# Altium integrated library Altium_SMD_Resister.IntLib: 490 symbols (part 8 of 8)
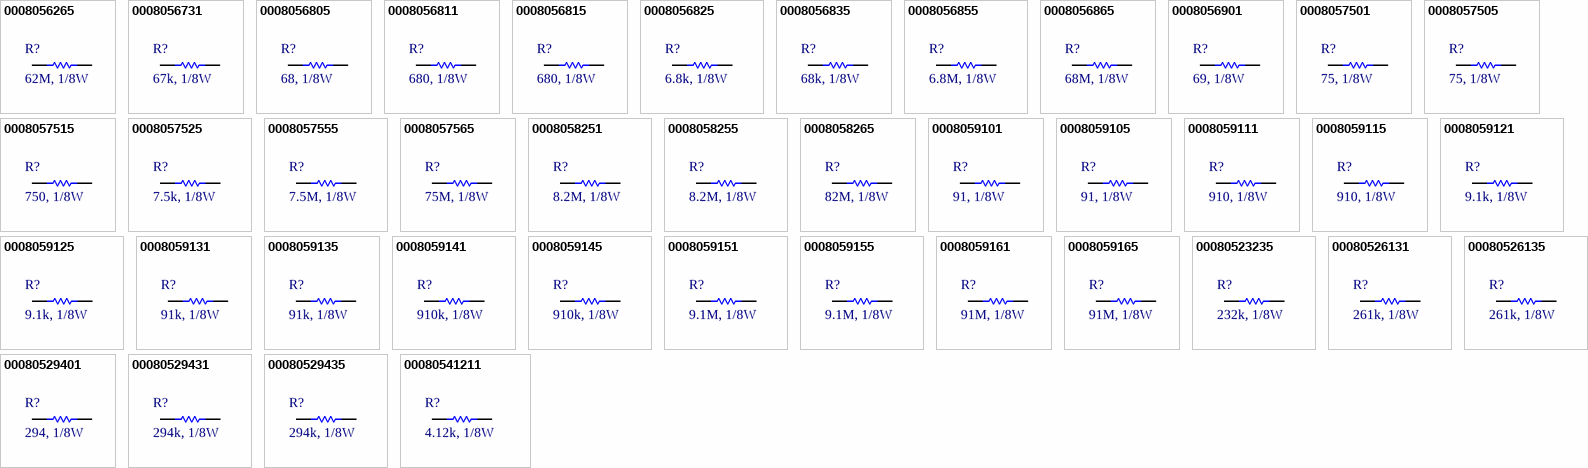
[diagram p19: symbols 0008056265 to 00080541211]

## 00080523235
designator R?, comment 232k, 1/8W
RES, 232k Ohm, size 0805, 5%; Manufacture  Name: Welwyn Components / TT Electronics; Manufacture  SN: LHVC0805-232KJT5; Resistance tolerance: +/-5%; Supply 1 Name: Mouser; Supply 1 SN: 756-LHVC0805-232KJT5; Size: 0805; Mounting Technology: SMT; Rated Power: 1/8 W; Datasheet: https://www.ttelectronics.com/TTElectronics/media/ProductFiles/Datasheets/LHVC.pdf; Resistance: 232k; ComponentLink1Description: Datasheet link; ComponentLink1URL: *; Supply 1 URL: https://www.mouser.vn/ProductDetail/Welwyn-Components-TT-Electronics/LHVC0805-232KJT5?qs=GY4PX5ytnAjQQPp7mjLUUQ%3D%3D; Supply 2 Name: *; Supply 2 SN: *; Supply 2 URL: *; Supply 3 Name: *; Supply 3 SN: *; Supply 3 URL: *
footprint RESISTOR_0805 (Chip Resistor, 2-Leads, Body 2,00x1,20mm, IPC Medium Density)
pins: 1, 2

## 00080526131
designator R?, comment 261k, 1/8W
RES, 261k Ohm, size 0805, 1%; Manufacture  Name: Bourns; Manufacture  SN: CR0805-FX-2613ELF; Resistance tolerance: +/-1%; Supply 1 Name: Mouser; Supply 1 SN: 652-CR0805FX-2613ELF; Supply 2 Name: Digi-Key; Supply 2 SN: 118-CR0805-FX-2613ELFTR-ND - Tape & Reel (TR); Size: 0805; Mounting Technology: SMT; Rated Power: 1/8 W; Datasheet: https://www.mouser.vn/datasheet/2/54/cr-1858361.pdf; Resistance: 261k; ComponentLink1Description: Datasheet link; ComponentLink1URL: *; Supply 1 URL: https://www.mouser.vn/ProductDetail/Bourns/CR0805-FX-2613ELF?qs=4vGXhLEMbUxDnPXNgaMzmw%3D%3D; Supply 2 URL: https://www.digikey.com/en/products/detail/bourns-inc/CR0805-FX-2613ELF/3784800; Supply 3 Name: *; Supply 3 SN: *; Supply 3 URL: *
footprint RESISTOR_0805 (Chip Resistor, 2-Leads, Body 2,00x1,20mm, IPC Medium Density)
pins: 1, 2

## 00080526135
designator R?, comment 261k, 1/8W
RES, 261k Ohm, size 0805, 5%; Manufacture  Name: Welwyn Components / TT Electronics; Manufacture  SN: LHVC0805-261KJT5; Resistance tolerance: +/-5%; Supply 1 Name: Mouser; Supply 1 SN: 756-LHVC0805-261KJT5; Size: 0805; Mounting Technology: SMT; Rated Power: 1/8 W; Datasheet: https://www.ttelectronics.com/TTElectronics/media/ProductFiles/Datasheets/LHVC.pdf; Resistance: 261k; ComponentLink1Description: Datasheet link; ComponentLink1URL: *; Supply 1 URL: https://www.mouser.vn/ProductDetail/Welwyn-Components-TT-Electronics/LHVC0805-261KJT5?qs=GY4PX5ytnAhEaqCyRTPbhQ%3D%3D; Supply 2 Name: *; Supply 2 SN: *; Supply 2 URL: *; Supply 3 Name: *; Supply 3 SN: *; Supply 3 URL: *
footprint RESISTOR_0805 (Chip Resistor, 2-Leads, Body 2,00x1,20mm, IPC Medium Density)
pins: 1, 2

## 00080529401
designator R?, comment 294, 1/8W
RES, 294 Ohm, size 0805, 1%; Manufacture  Name: Panasonic; Manufacture  SN: ERJ-6ENF2940V; Resistance tolerance: +/-1%; Resistance: 294; Supply 1 Name: Mouser; Supply 1 SN: 667-ERJ-6ENF2940V; Supply 2 Name: Digi-Key; Supply 2 SN: P294CTR-ND - Tape & Reel (TR); Size: 0805; Mounting Technology: SMT; Rated Power: 1/8 W; Datasheet: https://www.mouser.vn/datasheet/2/315/AOA0000C304-1149620.pdf; ComponentLink1Description: Datasheet link; ComponentLink1URL: *; Supply 1 URL: https://www.mouser.vn/ProductDetail/Panasonic/ERJ-6ENF2940V?qs=50QC8w71jAvukmJpZ9Lw1g%3D%3D; Supply 2 URL: https://www.digikey.com/en/products/detail/panasonic-electronic-components/ERJ-6ENF2940V/111179; Supply 3 Name: *; Supply 3 SN: *; Supply 3 URL: *
footprint RESISTOR_0805 (Chip Resistor, 2-Leads, Body 2,00x1,20mm, IPC Medium Density)
pins: 1, 2

## 00080529431
designator R?, comment 294k, 1/8W
RES, 294k Ohm, size 0805, 1%; Manufacture  Name: Bourns; Manufacture  SN: CR0805-FX-2943ELF; Resistance tolerance: +/-1%; Supply 1 Name: Mouser; Supply 1 SN: 652-CR0805FX-2943ELF; Supply 2 Name: Digi-Key; Supply 2 SN: 118-CR0805-FX-2943ELFTR-ND - Tape & Reel (TR); Size: 0805; Mounting Technology: SMT; Rated Power: 1/8 W; Datasheet: https://www.mouser.vn/datasheet/2/54/cr-1858361.pdf; Resistance: 294k; ComponentLink1Description: Datasheet link; ComponentLink1URL: *; Supply 1 URL: https://www.mouser.vn/ProductDetail/YAGEO/AC0805FR-07261RL?qs=UBLIud9aIG3KLDcxZj7pBg%3D%3D; Supply 2 URL: https://www.digikey.com/en/products/detail/bourns-inc/CR0805-FX-2943ELF/3784832; Supply 3 Name: *; Supply 3 SN: *; Supply 3 URL: *
footprint RESISTOR_0805 (Chip Resistor, 2-Leads, Body 2,00x1,20mm, IPC Medium Density)
pins: 1, 2

## 00080529435
designator R?, comment 294k, 1/8W
RES, 294k Ohm, size 0805, 5%; Manufacture  Name: Welwyn Components / TT Electronics; Manufacture  SN: LHVC0805-294KJT5; Resistance tolerance: +/-5%; Supply 1 Name: Mouser; Supply 1 SN: 756-LHVC0805-294KJT5; Size: 0805; Mounting Technology: SMT; Rated Power: 1/8 W; Datasheet: https://www.ttelectronics.com/TTElectronics/media/ProductFiles/Datasheets/LHVC.pdf; Resistance: 294k; ComponentLink1Description: Datasheet link; ComponentLink1URL: *; Supply 1 URL: https://www.mouser.vn/ProductDetail/Welwyn-Components-TT-Electronics/LHVC0805-294KJT5?qs=GY4PX5ytnAjG5%252BRJuXIg7w%3D%3D; Supply 2 Name: *; Supply 2 SN: *; Supply 2 URL: *; Supply 3 Name: *; Supply 3 SN: *; Supply 3 URL: *
footprint RESISTOR_0805 (Chip Resistor, 2-Leads, Body 2,00x1,20mm, IPC Medium Density)
pins: 1, 2

## 00080541211
designator R?, comment 4.12k, 1/8W
RES, 4.12k Ohm, size 0805, 1%; Manufacture  Name: Panasonic; Manufacture  SN: ERJ-U06F4121V; Resistance tolerance: +/-1%; Supply 1 Name: Mouser; Supply 1 SN: 667-ERJ-U06F4121V; Supply 2 Name: Digi-Key; Supply 2 SN: P4.12KCTR-ND - Tape & Reel (TR); Size: 0805; Mounting Technology: SMT; Rated Power: 1/8 W; Datasheet: https://www.mouser.vn/datasheet/2/315/AOA0000C334-1314047.pdf; Resistance: 4.12k; ComponentLink1Description: Datasheet link; ComponentLink1URL: *; Supply 1 URL: https://www.mouser.vn/ProductDetail/Panasonic/ERJ-U06F4121V?qs=Yyy8avaXlIsQpLxN%2Fe1aQA%3D%3D; Supply 2 URL: https://www.digikey.com/en/products/detail/panasonic-electronic-components/ERJ-6ENF4121V/111401; Supply 3 Name: *; Supply 3 SN: *; Supply 3 URL: *
footprint RESISTOR_0805 (Chip Resistor, 2-Leads, Body 2,00x1,20mm, IPC Medium Density)
pins: 1, 2

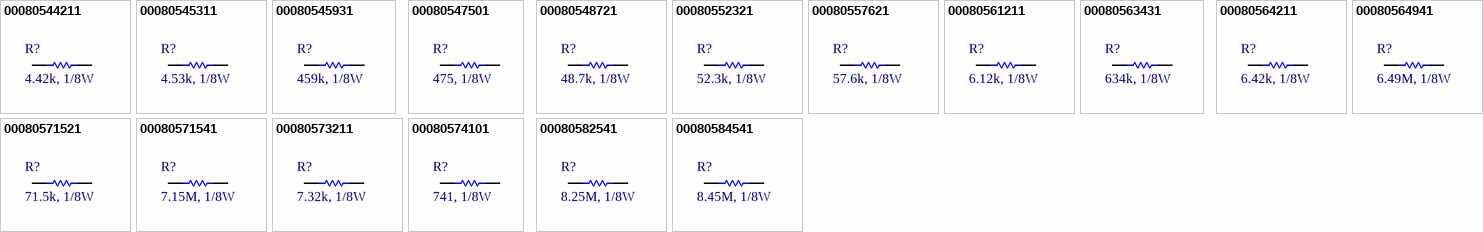
[diagram p12: symbols 00080544211 to 00080584541]

## 00080544211
designator R?, comment 4.42k, 1/8W
RES, 4.42k Ohm, size 0805, 1%; Resistance: 4.42 kOhms; Resistance Tolerance: +/-1%; Mounting Technique: SMT; Supply 1 Name: Digi-Key; Supply 1 SN: 311-4.42KCRDKR-ND; Supply 2 Name: Mouser; Supply 2 SN: 652-CR0805FX-4421ELF; Supply 3 Name: thegioiic; Size: 0805; Rated Power: 1/8W; Supply 1 URL: https://www.digikey.com/en/products/detail/yageo/RC0805FR-074K42L/727920; Supply 2 URL: https://www.mouser.vn/ProductDetail/Bourns/CR0805-FX-4421ELF?qs=sGAEpiMZZMtG0KNrPCHnjfC2zYK6Lg3%2FrXlYMryvIvo%3D; Supply 3 SN: *; Supply 3 URL: https://www.thegioiic.com/dien-tro-44-2-kohm-0805-1
footprint RESISTOR_0805 (Chip Resistor, 2-Leads, Body 2,00x1,20mm, IPC Medium Density)
pins: 1, 2

## 00080545311
designator R?, comment 4.53k, 1/8W
RES, 4.53k Ohm, size 0805, 1%; Resistance: 4.53 kOhms; Resistance Tolerance: +/-1%; Mounting Technique: SMT; Supply 1 Name: Digi-Key; Supply 1 SN: 311-45.3KCRDKR-ND; Supply 2 Name: Mouser; Supply 2 SN: 652-CR0805FX-4532ELF; Size: 0805; Rated Power: 1/8W; Supply 1 URL: https://www.digikey.com/en/products/detail/yageo/RC0805FR-0745K3L/727965; Supply 2 URL: https://www.mouser.vn/ProductDetail/Bourns/CR0805-FX-4532ELF?qs=sGAEpiMZZMtG0KNrPCHnjfC2zYK6Lg3%2F1%2Fel6VE8vT0%3D
footprint RESISTOR_0805 (Chip Resistor, 2-Leads, Body 2,00x1,20mm, IPC Medium Density)
pins: 1, 2

## 00080545931
designator R?, comment 459k, 1/8W
RES, 459k Ohm, size 0805, 1%; Resistance: 459 kOhms; Resistance Tolerance: +/-1%; Mounting Technique: SMT; Supply 1 Name: Digi-Key; Supply 1 SN: RMCF0805FT4K30DKR-ND; Size: 0805; Rated Power: 1/8W; Supply 1 URL: https://www.digikey.com/en/products/detail/stackpole-electronics-inc/RMCF0805FT4K30/1760198; Supply 2 Name: *; Supply 2 SN: *; Supply 2 URL: *
footprint RESISTOR_0805 (Chip Resistor, 2-Leads, Body 2,00x1,20mm, IPC Medium Density)
pins: 1, 2

## 00080547501
designator R?, comment 475, 1/8W
RES, 475 Ohm, size 0805, 1%; Resistance: 475 Ohms; Resistance Tolerance: +/-1%; Mounting Technique: SMT; Supply 1 Name: Digi-Key; Supply 1 SN: 311-475CRDKR-ND; Supply 2 Name: Mouser; Supply 2 SN: 660-RK73G2ARTTD4750F; Size: 0805; Rated Power: 1/8W; Supply 1 URL: https://www.digikey.com/en/products/detail/yageo/RC0805FR-07475RL/727978; Supply 2 URL: https://www.mouser.vn/ProductDetail/KOA-Speer/RK73G2ARTTD4750F?qs=sGAEpiMZZMtG0KNrPCHnjRpfexHZHoPICGbTAoMU%2F0TGfwzA89isyQ%3D%3D
footprint RESISTOR_0805 (Chip Resistor, 2-Leads, Body 2,00x1,20mm, IPC Medium Density)
pins: 1, 2

## 00080548721
designator R?, comment 48.7k, 1/8W
RES, 48.7k Ohm, size 0805, 1%; Resistance: 48.7 kOhms; Resistance Tolerance: +/-1%; Mounting Technique: SMT; Supply 1 Name: Digi-Key; Supply 1 SN: P48.7KCDKR-ND; Supply 2 Name: Mouser; Supply 2 SN: 652-CR0805FX-4872ELF; Size: 0805; Rated Power: 1/8W; Supply 1 URL: https://www.digikey.com/en/products/detail/panasonic-electronic-components/ERJ-6ENF4872V/111609; Supply 2 URL: https://www.mouser.vn/ProductDetail/Bourns/CR0805-FX-4872ELF?qs=sGAEpiMZZMtlubZbdhIBIL%252BKkaYz7rs3OXEDnL6C198%3D
footprint RESISTOR_0805 (Chip Resistor, 2-Leads, Body 2,00x1,20mm, IPC Medium Density)
pins: 1, 2

## 00080552321
designator R?, comment 52.3k, 1/8W
RES, 52.3k Ohm, size 0805, 1%; Resistance: 52.3 kOhms; Resistance Tolerance: +/-1%; Mounting Technique: SMT; Supply 1 Name: Digi-Key; Supply 1 SN: 311-52.3KCRDKR-ND; Supply 2 Name: Mouser; Supply 2 SN: 667-ERJ-6ENF5232V; Size: 0805; Rated Power: 1/8W; Supply 1 URL: https://www.digikey.com/en/products/detail/yageo/RC0805FR-0752K3L/728021; Supply 2 URL: https://www.mouser.vn/ProductDetail/Panasonic/ERJ-6ENF5232V?qs=sGAEpiMZZMtlubZbdhIBIGigBIB3A6R9zBn5%252BDYL6RA%3D
footprint RESISTOR_0805 (Chip Resistor, 2-Leads, Body 2,00x1,20mm, IPC Medium Density)
pins: 1, 2

## 00080557621
designator R?, comment 57.6k, 1/8W
RES, 57.6k Ohm, size 0805, 1%; Resistance: 57.6 kOhms; Resistance Tolerance: +/-1%; Mounting Technique: SMT; Supply 1 Name: Digi-Key; Supply 1 SN: 311-57.6KCRDKR-ND; Supply 2 Name: Mouser; Supply 2 SN: 667-ERJ-6ENF5762V; Size: 0805; Rated Power: 1/8W; Supply 1 URL: https://www.digikey.com/en/products/detail/yageo/RC0805FR-0757K6L/728041; Supply 2 URL: https://www.mouser.vn/ProductDetail/Panasonic/ERJ-6ENF5762V?qs=sGAEpiMZZMtlubZbdhIBIGigBIB3A6R9NhH0M6W9sy4%3D
footprint RESISTOR_0805 (Chip Resistor, 2-Leads, Body 2,00x1,20mm, IPC Medium Density)
pins: 1, 2

## 00080561211
designator R?, comment 6.12k, 1/8W
RES, 6.12k Ohm, size 0805, 1%; Resistance: 6.12 kOhms; Resistance Tolerance: +/-1%; Mounting Technique: SMT; Supply 1 Name: Digi-Key; Supply 1 SN: 2019-RN73R2ATTD6121F25TR-ND; Size: 0805; Rated Power: 1/8W; Supply 1 URL: https://www.digikey.com/en/products/detail/koa-speer-electronics-inc/RN73R2ATTD6121F25/10035242; Supply 2 Name: *; Supply 2 SN: *; Supply 2 URL: *
footprint RESISTOR_0805 (Chip Resistor, 2-Leads, Body 2,00x1,20mm, IPC Medium Density)
pins: 1, 2

## 00080563431
designator R?, comment 634k, 1/8W
RES, 634k Ohm, size 0805, 1%; Resistance: 634 kOhms; Resistance Tolerance: +/-1%; Mounting Technique: SMT; Supply 1 Name: Digi-Key; Supply 1 SN: 311-634KCRTR-ND; Supply 2 Name: Mouser; Supply 2 SN: 603-RT0805FRE07634KL; Size: 0805; Rated Power: 1/8W; Supply 1 URL: https://www.digikey.com/en/products/detail/yageo/RC0805FR-07634KL/728088; Supply 2 URL: https://www.mouser.vn/ProductDetail/YAGEO/RT0805FRE07634KL?qs=4CyHz7GXqSgfSiXMWNQNIg%3D%3D
footprint RESISTOR_0805 (Chip Resistor, 2-Leads, Body 2,00x1,20mm, IPC Medium Density)
pins: 1, 2

## 00080564211
designator R?, comment 6.42k, 1/8W
RES, 6.42k Ohm, size 0805, 1%; Resistance: 6.42 kOhms; Resistance Tolerance: +/-1%; Mounting Technique: SMT; Supply 1 Name: Digi-Key; Supply 1 SN: 2019-RN73R2ATTD6421F100TR-ND; Size: 0805; Rated Power: 1/8W; Supply 1 URL: https://www.digikey.com/en/products/detail/koa-speer-electronics-inc/RN73R2ATTD6421F100/10035641; Supply 2 Name: *; Supply 2 SN: *; Supply 2 URL: *
footprint RESISTOR_0805 (Chip Resistor, 2-Leads, Body 2,00x1,20mm, IPC Medium Density)
pins: 1, 2

## 00080564941
designator R?, comment 6.49M, 1/8W
RES, 6.49M Ohm, size 0805, 1%; Resistance: 6.49 MOhms; Resistance Tolerance: +/-1%; Mounting Technique: SMT; Supply 1 Name: Digi-Key; Supply 1 SN: 311-6.49MCRTR-ND; Size: 0805; Rated Power: 1/8W; Supply 1 URL: https://www.digikey.com/en/products/detail/yageo/RC0805FR-076M49L/731008; Supply 2 Name: *; Supply 2 SN: *; Supply 2 URL: *
footprint RESISTOR_0805 (Chip Resistor, 2-Leads, Body 2,00x1,20mm, IPC Medium Density)
pins: 1, 2

## 00080571521
designator R?, comment 71.5k, 1/8W
RES, 71.5k Ohm, size 0805, 1%; Resistance: 71.5 kOhms; Resistance Tolerance: +/-1%; Mounting Technique: SMT; Supply 1 Name: Digi-Key; Supply 1 SN: 311-71.5KCRTR-ND; Supply 2 Name: Mouser; Supply 2 SN: 603-RT0805FRE0771K5L; Size: 0805; Rated Power: 1/8W; Supply 1 URL: https://www.digikey.com/en/products/detail/yageo/RC0805FR-0771K5L/728125; Supply 2 URL: https://www.mouser.vn/ProductDetail/YAGEO/RT0805FRE0771K5L?qs=yNCrj0CQcyJ2X5%252BJTRHZxw%3D%3D
footprint RESISTOR_0805 (Chip Resistor, 2-Leads, Body 2,00x1,20mm, IPC Medium Density)
pins: 1, 2

## 00080571541
designator R?, comment 7.15M, 1/8W
RES, 7.15M Ohm, size 0805, 1%; Resistance: 7.15 MOhms; Resistance Tolerance: +/-1%; Mounting Technique: SMT; Supply 1 Name: Digi-Key; Supply 1 SN: 311-7.15MCRTR-ND; Size: 0805; Rated Power: 1/8W; Supply 1 URL: https://www.digikey.com/en/products/detail/yageo/RC0805FR-077M15L/728111; Supply 2 Name: *; Supply 2 SN: *; Supply 2 URL: *
footprint RESISTOR_0805 (Chip Resistor, 2-Leads, Body 2,00x1,20mm, IPC Medium Density)
pins: 1, 2

## 00080573211
designator R?, comment 7.32k, 1/8W
RES, 7.32k Ohm, size 0805, 1%; Resistance: 7.32 kOhms; Resistance Tolerance: +/-1%; Mounting Technique: SMT; Supply 1 Name: Digi-Key; Supply 1 SN: 311-7.32KCRTR-ND; Supply 2 Name: Mouser; Supply 2 SN: 603-RT0805FRE077K32L; Size: 0805; Rated Power: 1/8W; Supply 1 URL: https://www.digikey.com/en/products/detail/yageo/RC0805FR-077K32L/728113; Supply 2 URL: https://www.mouser.vn/ProductDetail/YAGEO/RT0805FRE077K32L?qs=yNCrj0CQcyL5VeJfozhHUw%3D%3D
footprint RESISTOR_0805 (Chip Resistor, 2-Leads, Body 2,00x1,20mm, IPC Medium Density)
pins: 1, 2

## 00080574101
designator R?, comment 741, 1/8W
RES, 741 Ohm, size 0805, 1%; Resistance: 741 Ohms; Resistance Tolerance: +/-1%; Mounting Technique: SMT; Supply 1 Name: Digi-Key; Supply 1 SN: 2019-RN73R2ATTD7410F100TR-ND; Size: 0805; Rated Power: 1/8W; Supply 1 URL: https://www.digikey.com/en/products/detail/koa-speer-electronics-inc/RN73R2ATTD7410F100/10036662; Supply 2 Name: *; Supply 2 SN: *; Supply 2 URL: *
footprint RESISTOR_0805 (Chip Resistor, 2-Leads, Body 2,00x1,20mm, IPC Medium Density)
pins: 1, 2

## 00080582541
designator R?, comment 8.25M, 1/8W
RES, 8.25M Ohm, size 0805, 1%; Resistance: 8.25 MOhms; Resistance Tolerance: +/-1%; Mounting Technique: SMT; Supply 1 Name: Digi-Key; Supply 1 SN: 311-8.25MCRTR-ND; Size: 0805; Rated Power: 1/8W; Supply 1 URL: https://www.digikey.com/en/products/detail/yageo/RC0805FR-078M25L/728150; Supply 2 Name: *; Supply 2 SN: *; Supply 2 URL: *
footprint RESISTOR_0805 (Chip Resistor, 2-Leads, Body 2,00x1,20mm, IPC Medium Density)
pins: 1, 2

## 00080584541
designator R?, comment 8.45M, 1/8W
RES, 8.45M Ohm, size 0805, 1%; Resistance: 8.45 MOhms; Resistance Tolerance: +/-1%; Mounting Technique: SMT; Supply 1 Name: Digi-Key; Supply 1 SN: 311-8.45MCRTR-ND; Size: 0805; Rated Power: 1/8W; Supply 1 URL: https://www.digikey.com/en/products/detail/yageo/RC0805FR-078M45L/728153; Supply 2 Name: *; Supply 2 SN: *; Supply 2 URL: *
footprint RESISTOR_0805 (Chip Resistor, 2-Leads, Body 2,00x1,20mm, IPC Medium Density)
pins: 1, 2